# EAGLE library part CC6 (library balto)
DC-DC CONVERTER UNIT CC6-xxxxxR-E Series
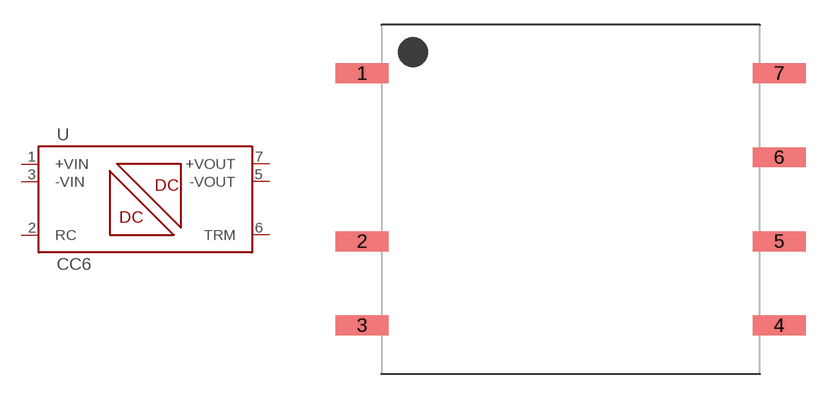
[diagram p38: symbol with the pads of CC6-XXXXSR-E; footprint CC6-XXXXSR-E]

Designator prefix U

## CC6-4805SR  [CC6-XXXXSR-E]
1  +VIN
2  RC
3  -VIN
5  -VOUT
6  TRM
7  +VOUT

## Footprint CC6-XXXXSR-E (pad centres in mm)
TDK Lambda DCDC Module
smd 3.2 x 1.2: 1 -12.6,7.62; 2 -12.6,-2.54; 3 -12.6,-7.62; 4 12.6,-7.62; 5 12.6,-2.54; 6 12.6,2.54; 7 12.6,7.62